# EAGLE library part BQ298000RUGT (library BQ2980)
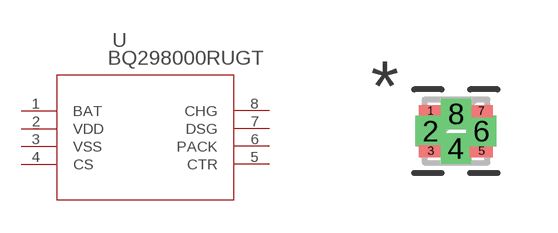
[diagram p0: symbol with the pads of RUG8_TEX; footprint RUG8_TEX]

Designator prefix U

## BQ298000RUGT (BUILT_BY: EMA_Jessica; COPYRIGHT: Copyright (C) 2018 Accelerated Designs. All rights reserved; MANUFACTURER_PART_NUMBER: BQ298000RUGT; SOURCELIBRARY: TI_2019-05-10; VENDOR: Texas Instruments)  [RUG8_TEX]
1  BAT  in
2  VDD  pwr
3  VSS  pwr
4  CS  in
5  CTR  in
6  PACK  in
7  DSG  out
8  CHG  out

## Footprint RUG8_TEX (pad centres in mm)
smd 0.58 x 0.3: 1 -0.635,0.5; 3 -0.635,-0.5; 5 0.635,-0.5; 7 0.635,0.5
drill 0.254 pad 0.254 square: 2 -0.635,0; 6 0.635,0
drill 0.254 pad 0.356 square: 4 0,-0.432; 8 0,0.432